# Altium schematic symbol library ECS-240-8-36CKM-TR.SchLib: 1 symbol
Pins are listed as number, name and electrical type; pins without a type are passive.

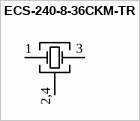
[diagram p0: symbol ECS-240-8-36CKM-TR]

## ECS-240-8-36CKM-TR
designator ?
8pF SMD2520-4P Crystals ROHS
pins: 1 OSC1, 2,4 OSC1, 3 OSC3